# EAGLE library part CP2103 (library CC11x)
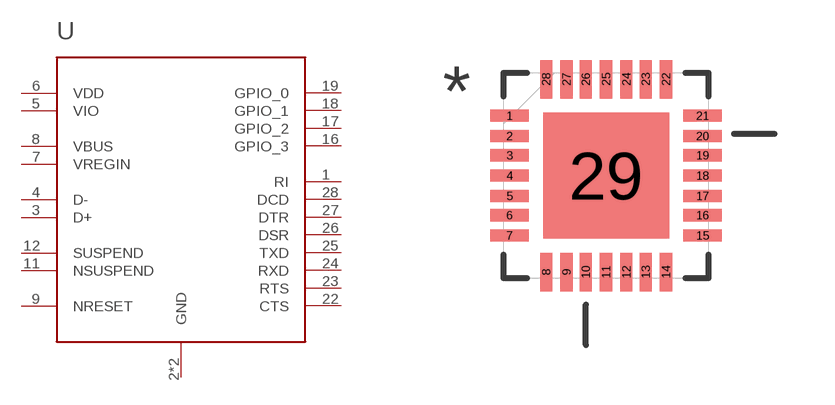
[diagram p5: symbol with the pads of QFN50P500X500X100-29N; footprint QFN50P500X500X100-29N]

Designator prefix -

## CP2103  [QFN50P500X500X100-29N]
1  RI  in
2  GND  pwr
3  D+
4  D-
5  VIO  in
6  VDD  pwr
7  VREGIN  pwr
8  VBUS  pwr
9  NRESET  in
11  NSUSPEND  out
12  SUSPEND  out
16  GPIO_3
17  GPIO_2
18  GPIO_1
19  GPIO_0
22  CTS  in
23  RTS  out
24  RXD  in
25  TXD  out
26  DSR  in
27  DTR  out
28  DCD  in
29  GND  pwr

## Footprint QFN50P500X500X100-29N (pad centres in mm)
smd 0.965 x 0.305: 1 -2.413,1.499; 2 -2.413,0.991; 3 -2.413,0.508; 4 -2.413,0; 5 -2.413,-0.508; 6 -2.413,-0.991; 7 -2.413,-1.499; 15 2.413,-1.499; 16 2.413,-0.991; 17 2.413,-0.508; 18 2.413,0; 19 2.413,0.508; 20 2.413,0.991; 21 2.413,1.499
smd 0.305 x 0.965: 8 -1.499,-2.413; 9 -0.991,-2.413; 10 -0.508,-2.413; 11 0,-2.413; 12 0.508,-2.413; 13 0.991,-2.413; 14 1.499,-2.413; 22 1.499,2.413; 23 0.991,2.413; 24 0.508,2.413; 25 0,2.413; 26 -0.508,2.413; 27 -0.991,2.413; 28 -1.499,2.413
smd 3.15 x 3.15: 29 0,0